# Altium footprint library OSCCC250X200X95L67X77N.PcbLib: 1 footprints
Each footprint in its own frame and in the unit in brackets; x right, y up, seen from the top. Pads: shape width x height; smd on the part's side, far side on the other; paste and mask are expansions set on the pad; w line width, h text height; cw(c..) or ccw(c..) is an arc to the next point about the centre after c.
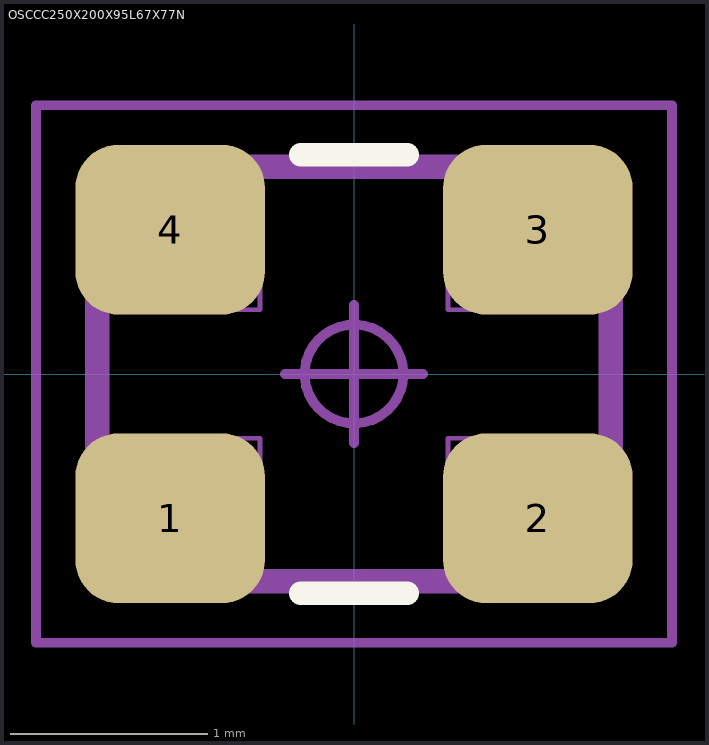
[diagram p0: the footprint, top view; thin cyan lines are the x and y axes]

## OSCCC250X200X95L67X77N [mm] "Oscillator, Corner Concave; 2.50 mm L X 2.00 mm W X 0.95 mm H body"
height 0.95
pads (4):
  rrect51% 0.96x0.86 smd: 1(-0.93,-0.73) 2(0.93,-0.73) 3(0.93,0.73) 4(-0.93,0.73)
Top Overlay:
  lines w0.12: -0.27,-1.11 0.27,-1.11 ; -0.27,1.11 0.27,1.11
Mechanical 3:
  lines w0.12: -1.3,-0.7 -0.95,-1.05 1.3,-1.05 1.3,1.05 -1.3,1.05 -1.3,-0.7
Mechanical 5:
  lines w0.025: -1.25,-1 1.25,-1 ; -1.25,-1 -1.25,1 ; -1.25,-1 -1.25,-0.325 -0.475,-0.325 -0.475,-1 -1.25,-1 ; -1.25,1 1.25,1 ; -1.25,1 -0.475,1 -0.475,0.325 -1.25,0.325 -1.25,1 ; 1.25,-1 1.25,1 ; 1.25,-1 0.475,-1 0.475,-0.325 1.25,-0.325 1.25,-1 ; 1.25,1 1.25,0.325 0.475,0.325 0.475,1 1.25,1
Mechanical 7:
  circle w0.05: c0,0 r0.25
  lines w0.05: -0.35,0 0.35,0 ; 0,-0.35 0,0.35 ; -1.61,-1.36 1.61,-1.36 1.61,1.36 -1.61,1.36 -1.61,-1.36
Mechanical 9:
  text "'.Designator'" at -4.655,-0.379 h1
3D body: height 2, standoff 0.05, extent -1.6,-1.375 1.625,1.375
3D body "OSCCC250X200X95L67X77.STEP": height 0.95, standoff 0, extent -1.25,-1 1.25,1
3D body: height 1.04, standoff 0, extent -1.61,-1.36 1.61,1.36